# Altium footprint library TERM_0.4IN_2x1_0.PcbLib: 1 footprints
Each footprint in its own frame and in the unit in brackets; x right, y up, seen from the top. Pads: shape width x height; smd on the part's side, far side on the other; paste and mask are expansions set on the pad; w line width, h text height; cw(c..) or ccw(c..) is an arc to the next point about the centre after c.
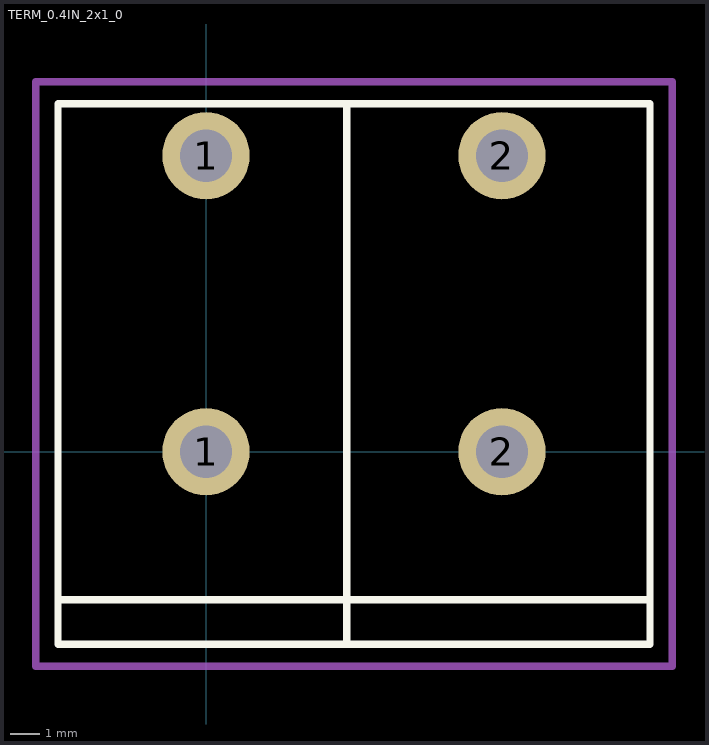
[diagram p0: the footprint, top view; thin cyan lines are the x and y axes]

## TERM_0.4IN_2x1_0 [mm] "Terminal Block, 0.4\" Spacing, 2x1"
pads (4):
  round 3 hole 1.8: 1(0,0) 1(0,10.16) 2(10.16,0) 2(10.16,10.16)
Top Overlay:
  lines w0.254: -5.08,-5.08 15.24,-5.08 ; 4.826,-6.604 4.826,11.938 ; -5.08,-6.604 15.24,-6.604 15.24,11.938 -5.08,11.938 -5.08,-6.604
Mechanical 15:
  lines w0.254: -5.842,-7.366 -5.842,12.7 16.002,12.7 16.002,-7.366 -5.842,-7.366